# EAGLE library part TSL2561 (library JeeLabs)
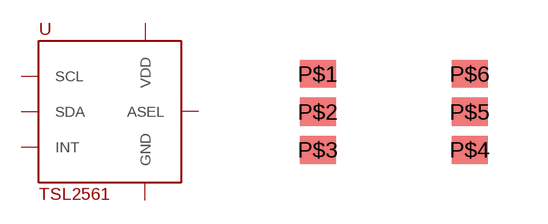
[diagram p18: symbol with the pads of TMB-6; footprint TMB-6]

Designator prefix -

## TSL2561  [TMB-6]
P$1  VDD  pwr
P$2  ASEL  in
P$3  GND  pwr
P$4  SCL
P$5  INT  oc
P$6  SDA

## Footprint TMB-6 (pad centres in mm)
smd 0.9 x 0.7: P$1 -1.9,0.95; P$2 -1.9,0; P$3 -1.9,-0.95; P$4 1.9,-0.95; P$5 1.9,0; P$6 1.9,0.95